# EAGLE library part MAX4373 (library space-concordia-power)
MAX4373 Low power, High side, Rsense current comparator active high, latchable output SOIC8 package
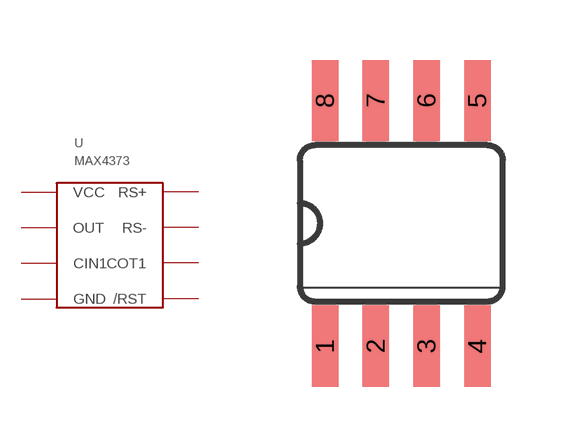
[diagram p9: symbol with the pads of SO08; footprint SO08]

Designator prefix -

## MAX4373  [SO08]
1  VCC
2  OUT
3  CIN1
4  GND
5  /RST
6  COT1
7  RS-
8  RS+

## Footprint SO08 (pad centres in mm)
Small Outline package 8 150 mil
smd 0.66 x 2.032: 1 -1.905,-3.073; 2 -0.635,-3.073; 3 0.635,-3.073; 4 1.905,-3.073; 5 1.905,3.073; 6 0.635,3.073; 7 -0.635,3.073; 8 -1.905,3.073